# EAGLE library part S08B-PUDSS-1 (library con-jst-pud)
JST connector, PUD series, 2.0mm spacing, crimp style, wire-to-board, 08 pin, side entry
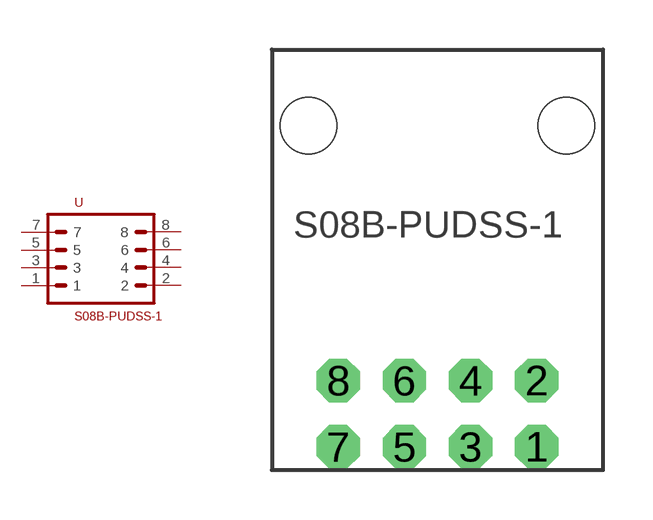
[diagram p4: symbol with the pads of PUD_08_PIN_SIDE_ENTRY; footprint PUD_08_PIN_SIDE_ENTRY]

Designator prefix -

## S08B-PUDSS-1 (DIGIKEY: 455-2485-ND; MF: JST; MPN: S08B-PUDSS-1)  [PUD_08_PIN_SIDE_ENTRY]
1  1
2  2
3  3
4  4
5  5
6  6
7  7
8  8

## Footprint PUD_08_PIN_SIDE_ENTRY (pad centres in mm)
drill 0.8 octagon: 1 3,-6; 2 3,-4; 3 1,-6; 4 1,-4; 5 -1,-6; 6 -1,-4; 7 -3,-6; 8 -3,-4
hole 1.7 at 3.9,3.7
hole 1.7 at -3.9,3.7